# Altium schematic symbol library Schlib_jp.SchLib: 203 symbols (part 2 of 6)
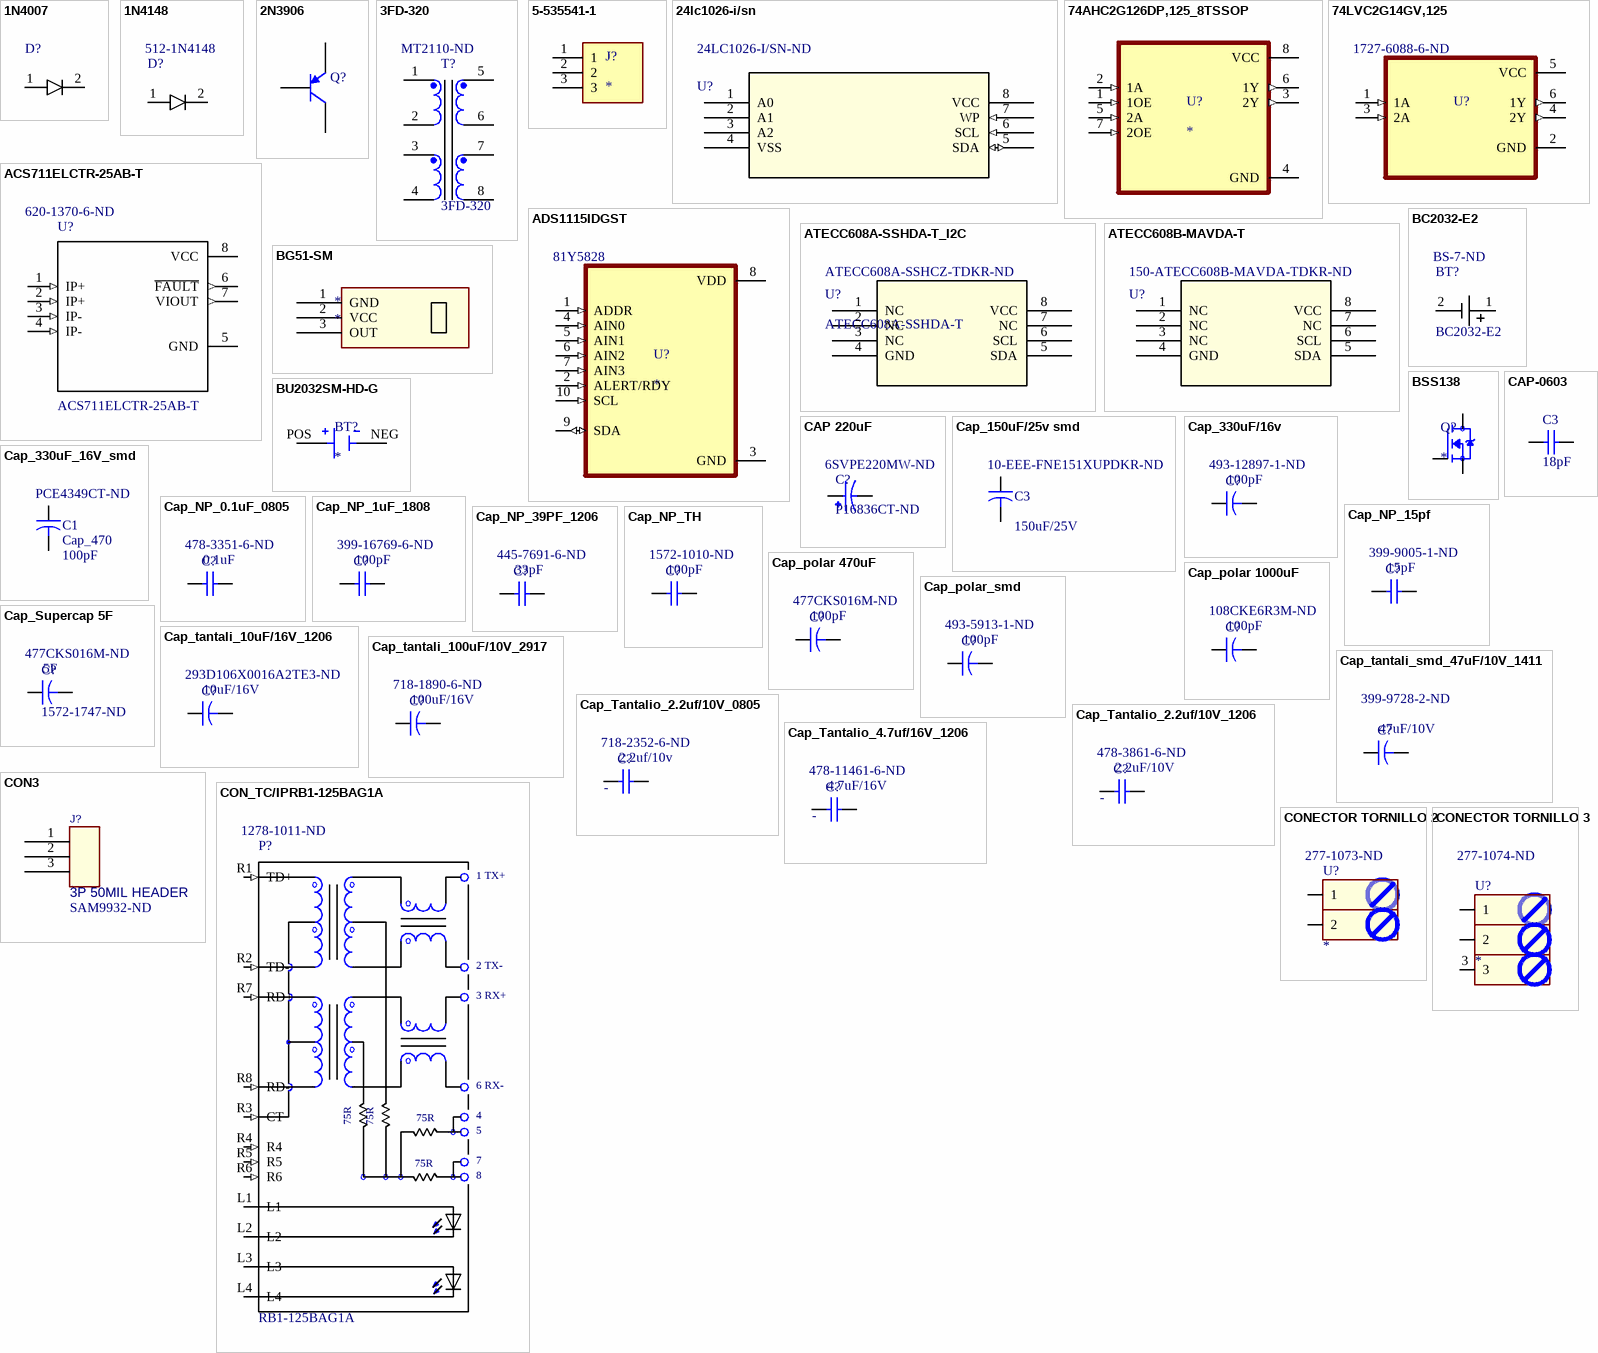
[diagram p9: symbols 1N4007 to CONECTOR TORNILLO 3]

## Cap_Tantalio_4.7uf/16V_1206
designator C?  value 4.7uF/16V  Supplier Part Number 1: 478-11461-6-ND
Capacitores de tantalio Moldeado 4.7 µF 16 V 1206 (3216 métrico); Manufacturer: Kyocera AVX; Manufacturer Part Number: 08055C104MAT2A; Digi_Key_Part_Number: 478-11461-1-ND; Dielectric Material: Ceramic; Capacitance: 100nF; Voltage Rating: 50V; Tolerance: 20%; Dielectric: X7R; Dissipation Factor: 2.5%; Insulation Resistance: 100GR; ESR (Equivalent Series Resistance): 3R; Life (Hours): 2000Hour; Published: 8-Jun-2000; LatestRevisionDate: 17-Jul-2002; LatestRevisionNote: Re-released for DXP Platform.; PackageReference: RAD-0.3; Publisher: Altium Limited; PackageDescription: Radial Cap, Thru-Hole; 2 Leads; 0.3 in Pin Spacing; Mount: Surface Mount,PCB; Case/Package: 0805; Number of Pins: 2; Case Code (Metric): 2012; Case Code (Imperial): 0805; Contact Plating: Tin,Matte; Min Operating Temperature: -55°C; Max Operating Temperature: 125°C; Package Quantity: 1; Packaging: Tape and Reel; Voltage Rating (DC): 50V; Termination: SMD/SMT; Voltage: 50V; Length: 2.01mm; Height: 0.94mm; Width: 0.049inch; Thickness: 0.037inch; Depth: 1.25mm; Radiation Hardening: No; REACH SVHC: No SVHC; Lead Free: Lead Free; Features: General Purpose; Supplier 1: Digi-Key; Link: https://www.digikey.com/es/products/detail/TAJA475K016UNJ/478-11461-6-ND/8019359?utm_campaign=buynow&utm_medium=aggregator&curr=usd&utm_source=octopart; ComponentLink1Description: CAP TANT 4.7UF 10% 16V 1206; ComponentLink1URL: https://www.digikey.com/es/products/detail/TAJA475K016UNJ/478-11461-6-ND/8019359?utm_campaign=buynow&utm_medium=aggregator&curr=usd&utm_source=octopart
footprint CAP_tantalio_1206
pins: 1 -, 2

## CON3
designator J?, comment 3P 50MIL HEADER  Supplier Part Number 1: SAM9932-ND
COMPSIDE: TOP; COMPLOC: [730.000,710.000]; COMPROT: 0; COMPFIXED: NO; COMPHEIGHT: 0.000; COMPGROUP: 0; COMPLOCKED: NO; COMPKEY: NO; DECOUPLER: NO; MEMORY: NO; Supplier 1: Digi-Key
footprint 3P 50 MIL HEADER_RDS
pins: 1, 2, 3

## CON_TC/IPRB1-125BAG1A
designator P?, comment RB1-125BAG1A  Supplier Part Number 1: 1278-1011-ND
Accessory RJ-45 With Transformer Connector - UDE; MF: WIZnet; Shielding: Shielded; Connector Type: RJ45; Number of Ports: 1; Direction: Down; Number of Positions: 8; Insulation Resistance: 500MR; Number of Cores per Jack: 4; Availability: Unavailable; Price: None; Package: HVQFN-36 NXP Semiconductors; SnapEDA_Link: https://www.snapeda.com/parts/RB1-125BAG1A/WIZnet/view-part/?ref=snap; MP: RB1-125BAG1A; Value: *; Supplier 1: Digi-Key; Manufacturer: WIZnet; Manufacturer Part Number: RB1-125BAG1A; Stock 1: 11611; Pricing 1: 1=2.55, 10=2.448, 25=2.244, 50=2.142, 100=2.04, 250=1.785, 500=1.734, 1000=1.56 (USD); Mount: Through Hole; Case/Package: 100; Color: Green,Yellow,Black; Contact Material: Bronze; Contact Plating: Gold; Housing Material: Thermoplastic; Min Operating Temperature: 0°C; Max Operating Temperature: 70°C; Number of Rows: 1; Packaging: Bulk; Package Quantity: 420; Termination: Solder; Lead Free: Lead Free; ComponentLink1URL: http://www1.futureelectronics.com/doc/WIZNET%20INC/RB1-125BAG1A.pdf?src-supplier=Future+Electronics; ComponentLink1Description: http://www1.futureelectronics.com/doc/WIZNET%20INC/RB1-125BAG1A.pdf?src-supplier=Future+Electronics; ComponentLink2URL: http://www.jameco.com/Jameco/Products/ProdDS/2132875.pdf?src-supplier=Jameco; ComponentLink2Description: http://www.jameco.com/Jameco/Products/ProdDS/2132875.pdf?src-supplier=Jameco; ComponentLink3URL: https://www.shopwiznet.com/lanotattachments/download/file/id/95/store/1/?src-supplier=Digi-Key; ComponentLink3Description: https://www.shopwiznet.com/lanotattachments/download/file/id/95/store/1/?src-supplier=Digi-Key; ComponentLink4URL: http://www.mouser.com/ds/2/443/RB1-125BAG1A(111-00)-224696.pdf?src-supplier=Mouser; ComponentLink4Description: http://www.mouser.com/ds/2/443/RB1-125BAG1A(111-00)-224696.pdf?src-supplier=Mouser
footprint J1B1211CCD
pins: L1, L2, L3, L4, R1 TD+ (in), R2 TD- (in), R3 CT (in), R4 (in), R5 (in), R6 (in), R7 RD+ (in), R8 RD- (in)
text: 1 TX+; 2 TX-; 3 RX+; 6 RX-; 75R; 5; 7

## CONECTOR TORNILLO 2
designator U?  Supplier Part Number 1: 277-1073-ND
Manufacturer: Phoenix Contact; Manufacturer Part Number: 1753437; Current Rating: 12A; Voltage Rating: 250V; Number of Positions: 2; Number of Levels: 1; Voltage: 300V; Voltage Rating (DC): 400V; Pitch: 5mm; Approvals: UL,CSA; Supplier 1: Digi-Key; Stock 1: 7580; Pricing 1: 1=0.72, 10=0.688, 50=0.6584, 100=0.6404, 250=0.59852, 500=0.55062, 1000=0.50873, 2500=0.48479, 5000=0.45486 (USD); Mount: Through Hole; Weight: 0.037778oz; Color: Grey,Green; Contact Plating: Tin; Contact Material: Copper,Tin; Housing Color: Green; Housing Material: Polybutylene; Number of Rows: 1; Package Quantity: 50; Packaging: Bulk; Termination: Solder; Number of Positions Per Level: 2; Current: 12A; Max Current Rating: 12A; Number of Contacts: 2; Orientation: Straight; Number of Poles: 2; Length: 10mm; Height: 10mm; Width: 15.9mm; Depth: 8.6mm; Lead Free: Lead Free; Flammability Rating: UL94 V-0; ComponentLink1URL: https://www.verical.com/server-webapp/html/getDatasheet?partID=294641&src-supplier=Verical; ComponentLink1Description: https://www.verical.com/server-webapp/html/getDatasheet?partID=294641&src-supplier=Verical; ComponentLink2URL: https://media.digikey.com/pdf/Data%20Sheets/Phoenix%20Contact%20PDFs/1753437.pdf?src-supplier=Digi-Key; ComponentLink2Description: https://media.digikey.com/pdf/Data%20Sheets/Phoenix%20Contact%20PDFs/1753437.pdf?src-supplier=Digi-Key; ComponentLink3URL: https://produktinfo.conrad.com/datenblaetter/725000-749999/743815-da-01-en-GRUNDGEHAEUSE__MSTBV_2_5__2_G.pdf?src-supplier=Conrad; ComponentLink3Description: https://produktinfo.conrad.com/datenblaetter/725000-749999/743815-da-01-en-GRUNDGEHAEUSE__MSTBV_2_5__2_G.pdf?src-supplier=Conrad
footprint 277-1140 (TERM BLOCK 2POS)
pins: 1, 2

## CONECTOR TORNILLO 3
designator U?  Supplier Part Number 1: 277-1074-ND
Manufacturer: Phoenix Contact; Manufacturer Part Number: 1753437; Current Rating: 12A; Voltage Rating: 250V; Number of Positions: 2; Number of Levels: 1; Voltage: 300V; Voltage Rating (DC): 400V; Pitch: 5mm; Approvals: UL,CSA; Mount: Through Hole; Weight: 0.037778oz; Color: Grey,Green; Contact Plating: Tin; Contact Material: Copper,Tin; Housing Color: Green; Housing Material: Polybutylene; Number of Rows: 1; Package Quantity: 50; Packaging: Bulk; Termination: Solder; Number of Positions Per Level: 2; Current: 12A; Max Current Rating: 12A; Number of Contacts: 2; Orientation: Straight; Number of Poles: 2; Length: 10mm; Height: 10mm; Width: 15.9mm; Depth: 8.6mm; Lead Free: Lead Free; Flammability Rating: UL94 V-0; ComponentLink1URL: https://www.verical.com/server-webapp/html/getDatasheet?partID=294641&src-supplier=Verical; ComponentLink1Description: https://www.verical.com/server-webapp/html/getDatasheet?partID=294641&src-supplier=Verical; ComponentLink2URL: https://media.digikey.com/pdf/Data%20Sheets/Phoenix%20Contact%20PDFs/1753437.pdf?src-supplier=Digi-Key; ComponentLink2Description: https://media.digikey.com/pdf/Data%20Sheets/Phoenix%20Contact%20PDFs/1753437.pdf?src-supplier=Digi-Key; ComponentLink3URL: https://produktinfo.conrad.com/datenblaetter/725000-749999/743815-da-01-en-GRUNDGEHAEUSE__MSTBV_2_5__2_G.pdf?src-supplier=Conrad; ComponentLink3Description: https://produktinfo.conrad.com/datenblaetter/725000-749999/743815-da-01-en-GRUNDGEHAEUSE__MSTBV_2_5__2_G.pdf?src-supplier=Conrad; Supplier 1: Digi-Key; Stock 1: 2384; Pricing 1: 1=1.06, 10=1.014, 50=0.9702, 100=0.9437, 250=0.882, 500=0.81144, 1000=0.7497, 2500=0.71442, 5000=0.67032 (USD); ComponentLink4URL: https://media.digikey.com/pdf/Data%20Sheets/Phoenix%20Contact%20PDFs/1753453.pdf?src-supplier=Digi-Key; ComponentLink4Description: https://media.digikey.com/pdf/Data%20Sheets/Phoenix%20Contact%20PDFs/1753453.pdf?src-supplier=Digi-Key; ComponentLink5URL: https://www.alliedelec.com/m/d/04bf1952d21caef77442e0e02da47893.pdf?src-supplier=Allied+Electronics; ComponentLink5Description: https://www.alliedelec.com/m/d/04bf1952d21caef77442e0e02da47893.pdf?src-supplier=Allied+Electronics; ComponentLink6URL: https://produktinfo.conrad.com/datenblaetter/725000-749999/743827-da-01-en-GRUNDGEHAEUSE__MSTBV_2_5__3_G.pdf?src-supplier=Conrad; ComponentLink6Description: https://produktinfo.conrad.com/datenblaetter/725000-749999/743827-da-01-en-GRUNDGEHAEUSE__MSTBV_2_5__3_G.pdf?src-supplier=Conrad
footprint 277-1141 (TERM BLOCK HDR 3POS)
pins: 1, 2, 3

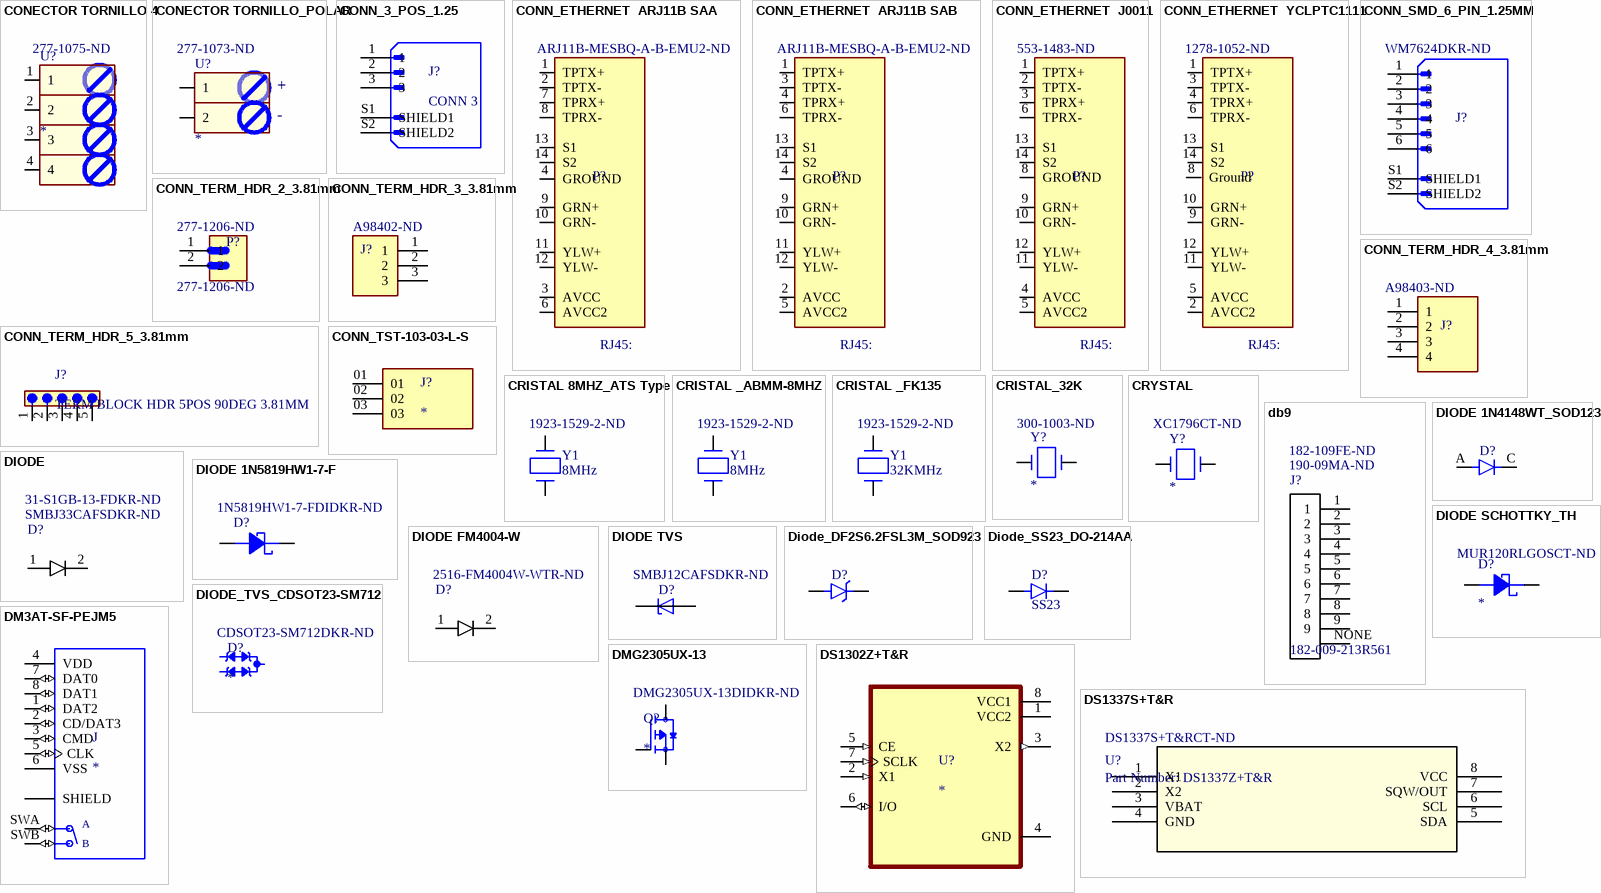
[diagram p1: symbols CONECTOR TORNILLO 4 to DS1337S+T&R]

## CONECTOR TORNILLO 4
designator U?  Supplier Part Number 1: 277-1075-ND
Manufacturer: Phoenix Contact; Manufacturer Part Number: 1753437; Current Rating: 12A; Voltage Rating: 250V; Number of Positions: 2; Number of Levels: 1; Voltage: 300V; Voltage Rating (DC): 400V; Pitch: 5mm; Approvals: UL,CSA; Mount: Through Hole; Weight: 0.037778oz; Color: Grey,Green; Contact Plating: Tin; Contact Material: Copper,Tin; Housing Color: Green; Housing Material: Polybutylene; Number of Rows: 1; Package Quantity: 50; Packaging: Bulk; Termination: Solder; Number of Positions Per Level: 2; Current: 12A; Max Current Rating: 12A; Number of Contacts: 2; Orientation: Straight; Number of Poles: 2; Length: 10mm; Height: 10mm; Width: 15.9mm; Depth: 8.6mm; Lead Free: Lead Free; Flammability Rating: UL94 V-0; ComponentLink1URL: https://www.verical.com/server-webapp/html/getDatasheet?partID=294641&src-supplier=Verical; ComponentLink1Description: https://www.verical.com/server-webapp/html/getDatasheet?partID=294641&src-supplier=Verical; ComponentLink2URL: https://media.digikey.com/pdf/Data%20Sheets/Phoenix%20Contact%20PDFs/1753437.pdf?src-supplier=Digi-Key; ComponentLink2Description: https://media.digikey.com/pdf/Data%20Sheets/Phoenix%20Contact%20PDFs/1753437.pdf?src-supplier=Digi-Key; ComponentLink3URL: https://produktinfo.conrad.com/datenblaetter/725000-749999/743815-da-01-en-GRUNDGEHAEUSE__MSTBV_2_5__2_G.pdf?src-supplier=Conrad; ComponentLink3Description: https://produktinfo.conrad.com/datenblaetter/725000-749999/743815-da-01-en-GRUNDGEHAEUSE__MSTBV_2_5__2_G.pdf?src-supplier=Conrad; ComponentLink4URL: https://www.verical.com/server-webapp/html/getDatasheet?partID=247903&src-supplier=Verical; ComponentLink4Description: https://www.verical.com/server-webapp/html/getDatasheet?partID=247903&src-supplier=Verical; ComponentLink5URL: https://media.digikey.com/pdf/Data%20Sheets/Phoenix%20Contact%20PDFs/1754478.pdf?src-supplier=Digi-Key; ComponentLink5Description: https://media.digikey.com/pdf/Data%20Sheets/Phoenix%20Contact%20PDFs/1754478.pdf?src-supplier=Digi-Key; ComponentLink6URL: https://produktinfo.conrad.com/datenblaetter/725000-749999/743854-da-01-en-GRUNDGEHAEUSE__MSTB_2_5__4_G.pdf?src-supplier=Conrad; ComponentLink6Description: https://produktinfo.conrad.com/datenblaetter/725000-749999/743854-da-01-en-GRUNDGEHAEUSE__MSTB_2_5__4_G.pdf?src-supplier=Conrad; Supplier 1: Digi-Key; Stock 1: 3061; Pricing 1: 1=1.45, 10=1.389, 50=1.3282, 100=1.292, 250=1.20752, 500=1.1109, 1000=1.02637, 2500=0.97807, 5000=0.9177 (USD); ComponentLink7URL: https://media.digikey.com/pdf/Data%20Sheets/Phoenix%20Contact%20PDFs/1753479.pdf?src-supplier=Digi-Key; ComponentLink7Description: https://media.digikey.com/pdf/Data%20Sheets/Phoenix%20Contact%20PDFs/1753479.pdf?src-supplier=Digi-Key; ComponentLink8URL: https://www.verical.com/server-webapp/html/getDatasheet?partID=717945&src-supplier=Verical; ComponentLink8Description: https://www.verical.com/server-webapp/html/getDatasheet?partID=717945&src-supplier=Verical; ComponentLink9URL: https://produktinfo.conrad.com/datenblaetter/725000-749999/743463-da-01-en-GRUNDGEHAEUSE___MSTBV_2_5__4_G.pdf?src-supplier=Conrad; ComponentLink9Description: https://produktinfo.conrad.com/datenblaetter/725000-749999/743463-da-01-en-GRUNDGEHAEUSE___MSTBV_2_5__4_G.pdf?src-supplier=Conrad
footprint 277-1075 (TERM BLOCK HDR 3POS)
pins: 1, 2, 3, 4

## CONECTOR TORNILLO_POLAR
designator U?  Supplier Part Number 1: 277-1073-ND
Manufacturer: Phoenix Contact; Manufacturer Part Number: 1753437; Current Rating: 12A; Voltage Rating: 250V; Number of Positions: 2; Number of Levels: 1; Voltage: 300V; Voltage Rating (DC): 400V; Pitch: 5mm; Approvals: UL,CSA; Supplier 1: Digi-Key; Stock 1: 7580; Pricing 1: 1=0.72, 10=0.688, 50=0.6584, 100=0.6404, 250=0.59852, 500=0.55062, 1000=0.50873, 2500=0.48479, 5000=0.45486 (USD); Mount: Through Hole; Weight: 0.037778oz; Color: Grey,Green; Contact Plating: Tin; Contact Material: Copper,Tin; Housing Color: Green; Housing Material: Polybutylene; Number of Rows: 1; Package Quantity: 50; Packaging: Bulk; Termination: Solder; Number of Positions Per Level: 2; Current: 12A; Max Current Rating: 12A; Number of Contacts: 2; Orientation: Straight; Number of Poles: 2; Length: 10mm; Height: 10mm; Width: 15.9mm; Depth: 8.6mm; Lead Free: Lead Free; Flammability Rating: UL94 V-0; ComponentLink1URL: https://www.verical.com/server-webapp/html/getDatasheet?partID=294641&src-supplier=Verical; ComponentLink1Description: https://www.verical.com/server-webapp/html/getDatasheet?partID=294641&src-supplier=Verical; ComponentLink2URL: https://media.digikey.com/pdf/Data%20Sheets/Phoenix%20Contact%20PDFs/1753437.pdf?src-supplier=Digi-Key; ComponentLink2Description: https://media.digikey.com/pdf/Data%20Sheets/Phoenix%20Contact%20PDFs/1753437.pdf?src-supplier=Digi-Key; ComponentLink3URL: https://produktinfo.conrad.com/datenblaetter/725000-749999/743815-da-01-en-GRUNDGEHAEUSE__MSTBV_2_5__2_G.pdf?src-supplier=Conrad; ComponentLink3Description: https://produktinfo.conrad.com/datenblaetter/725000-749999/743815-da-01-en-GRUNDGEHAEUSE__MSTBV_2_5__2_G.pdf?src-supplier=Conrad
footprint 277-1140 (TERM BLOCK 2POS)
pins: 1, 2
text: +; -

## CONN_3_POS_1.25
designator J?, comment CONN 3
Conn Shrouded Header (4 Sides) HDR 3 POS 1.25mm Solder RA Side Entry SMD PicoBladeâ„¢ T/R; MF: Molex; MP: 532610371; Check_prices: https://www.snapeda.com/parts/532610371/Molex/view-part/?ref=eda; Value: *; Price: None; Package: None; Availability: In Stock; Purchase-URL: https://pricing.snapeda.com/search/part/532610371/?ref=eda; SnapEDA_Link: https://www.snapeda.com/parts/532610371/Molex/view-part/?ref=snap; ComponentLink1Description: CONN HEADER SMD R/A 3POS 1.25MM; ComponentLink1URL: https://www.digikey.com/es/products/detail/amphenol-cs-fci/10114830-10103LF/4238857; Link: https://www.digikey.com/es/products/detail/amphenol-cs-fci/10114830-10103LF/4238857; Digi-Key_Part_Number: 609-5778-1-ND
footprint MOLEX_532610371
pins: 1, 2, 3, S1 SHIELD1, S2 SHIELD2

## CONN_ETHERNET  ARJ11B SAA
designator P?, comment Supplier Part Number 1: ARJ11B-MESBQ-A-B-EMU2-ND  (hidden comment: 1278-1052-ND)
1 Puerto RJ45Orificio pasante 10/100 Base-T, AutoMDIX; MF: Ceetus; MP: J1B1211CCD; DigiKey-Purchase-URL: https://snapeda.com/shop?store=DigiKey&id=561300; Value: *; Package: None; Availability: Warning; SnapEDA_Link: https://www.snapeda.com/parts/J1B1211CCD/Cetus/view-part/561300/?ref=snap; Mouser-Purchase-URL: https://snapeda.com/shop?store=Mouser&id=561300; Price: None; Supplier 1: Digi-Key; Digi_Key_Part_Number: 1278-1052-ND; Link: https://www.digikey.com/es/products/detail/wiznet/J1B1211CCD/7604176?s=N4IgTCBcDaIIxgOwA4C0cAMBWMqByAIiALoC%2BQA
footprint J1B1211CCD
pins: 1 TPTX+, 2 TPTX-, 3 AVCC, 4 GROUND, 6 AVCC2, 7 TPRX+, 8 TPRX-, 9 GRN+, 10 GRN-, 11 YLW+, 12 YLW-, 13 S1, 14 S2

## CONN_ETHERNET  ARJ11B SAB
designator P?, comment Supplier Part Number 1: ARJ11B-MESBQ-A-B-EMU2-ND  (hidden comment: 1278-1052-ND)
1 Puerto RJ45Orificio pasante 10/100 Base-T, AutoMDIX; MF: Ceetus; MP: J1B1211CCD; DigiKey-Purchase-URL: https://snapeda.com/shop?store=DigiKey&id=561300; Value: *; Package: None; Availability: Warning; SnapEDA_Link: https://www.snapeda.com/parts/J1B1211CCD/Cetus/view-part/561300/?ref=snap; Mouser-Purchase-URL: https://snapeda.com/shop?store=Mouser&id=561300; Price: None; Supplier 1: Digi-Key
footprint J1B1211CCD
pins: 1 TPTX+, 2 AVCC, 3 TPTX-, 4 TPRX+, 4 GROUND, 5 AVCC2, 6 TPRX-, 9 GRN+, 10 GRN-, 11 YLW+, 12 YLW-, 13 S1, 14 S2

## CONN_ETHERNET  J0011
designator P?, comment Supplier Part Number 1: 553-1483-ND  (hidden comment: 1278-1052-ND)
1 Puerto RJ45Orificio pasante 10/100 Base-T, AutoMDIX; MF: Ceetus; MP: J1B1211CCD; Value: *; Package: None; Availability: Warning; SnapEDA_Link: https://www.snapeda.com/parts/J1B1211CCD/Cetus/view-part/561300/?ref=snap; Mouser-Purchase-URL: https://snapeda.com/shop?store=Mouser&id=561300; Price: None; Supplier 1: Digi-Key; Digi-Key_Part_Number: 553-1483-ND; Link: https://www.digikey.com/es/products/detail/pulse-electronics/j0011d01bnl/1036891; ComponentLink1Description: CONN JACK 1PORT 100 BASE-TX PCB J0011D01BNL; ComponentLink1URL: https://www.digikey.com/es/products/detail/pulse-electronics/j0011d01bnl/1036891
footprint J1B1211CCD
pins: 1 TPTX+, 2 TPTX-, 3 TPRX+, 4 AVCC, 5 AVCC2, 6 TPRX-, 8 GROUND, 9 GRN+, 10 GRN-, 11 YLW-, 12 YLW+, 13 S1, 14 S2

## CONN_ETHERNET  YCLPTC1111
designator P?, comment 1278-1052-ND
1 Puerto RJ45Orificio pasante 10/100 Base-T, AutoMDIX; MF: Ceetus; MP: J1B1211CCD; DigiKey-Purchase-URL: https://snapeda.com/shop?store=DigiKey&id=561300; Value: *; Package: None; Availability: Warning; SnapEDA_Link: https://www.snapeda.com/parts/J1B1211CCD/Cetus/view-part/561300/?ref=snap; Mouser-Purchase-URL: https://snapeda.com/shop?store=Mouser&id=561300; Price: None; Supplier 1: Digi-Key; Supplier Part Number 1: 1278-1052-ND
footprint J1B1211CCD
pins: 1 TPTX+, 2 AVCC2, 3 TPTX-, 4 TPRX+, 5 AVCC, 6 TPRX-, 8 Ground, 9 GRN-, 10 GRN+, 11 YLW-, 12 YLW+, 13 S1, 14 S2

## CONN_SMD_6_PIN_1.25MM
designator J?, comment Supplier Part Number 1: WM7624DKR-ND  (hidden comment: 532610671)
Connector Header Surface Mount, Right Angle 6 position 0.049 (1.25mm); MF: Molex; Check_prices: https://www.snapeda.com/parts/532610671/Molex/view-part/?ref=eda; Value: *; Purchase-URL: https://pricing.snapeda.com/search/part/532610671/?ref=eda; Digi-Key_Part_Number: WM7624TR-ND; SnapEDA_Link: https://www.snapeda.com/parts/532610671/Molex/view-part/?ref=snap; Package: None; MP: 532610671; Supplier 1: Digi-Key; ComponentLink1Description: CONN HEADER SMD R/A 6POS 1.25MM; ComponentLink1URL: https://www.digikey.com/es/products/detail/0532610671/WM7624DKR-ND/1846792?utm_campaign=buynow&utm_medium=aggregator&curr=usd&utm_source=octopart; Link: https://www.digikey.com/es/products/detail/0532610671/WM7624DKR-ND/1846792?utm_campaign=buynow&utm_medium=aggregator&curr=usd&utm_source=octopart
footprint MOLEX_532610671
pins: 1, 2, 3, 4, 5, 6, S1 SHIELD1, S2 SHIELD2

## CONN_TERM_HDR_2_3.81mm
designator P?, comment 277-1206-ND
2 Position Terminal Block Header, Male Pins, Shrouded (4 Side) 0.150" (3.81mm) 90°, Right Angle Through Hole; MP: 1803277; MF: Phoenix Contact; Package: FakePackage N; Value: *; SnapEDA_Link: https://www.snapeda.com/parts/1803277/Phoenix%20Contact/view-part/115436/?ref=snap; Supplier 1: Digi-Key; Link: https://www.digikey.com/en/products/detail/phoenix-contact/1803277/260574; ComponentLink1Description: TERM BLOCK HDR 2POS 90DEG 3.81MM; ComponentLink1URL: https://www.digikey.com/es/products/detail/phoenix-contact/1803277/260574?s=N4IgTCBcDa4OxwLQEYwAYBsiByAREAugL5A; Digi_Key_Part_Number: 277-1206-ND; Supplier Part Number 1: 277-1206-ND
footprint PHOENIX_1803277
pins: 1, 2

## CONN_TERM_HDR_3_3.81mm
designator J?, comment Supplier Part Number 1: A98402-ND  (hidden comment: 284513-3)
3 Bloque de terminales de posición Cabecera, clavija macho, protegida (4 lados) 0.150" (3.81mm) 90°, ángulo recto Orificio pasante; MF: TE Connectivity; MP: 284513-3; Package: None; Value: *; TE_purchase_URL: https://www.te.com/usa-en/product-284513-3.html?te_bu=Cor&te_type=disp&te_campaign=seda_glo_cor-seda-global-disp-prtnr-fy19-seda-model-bom-cta_sma-317_1&elqCampaignId=32493; Availability: Unavailable; Price: None; SnapEDA_Link: https://www.snapeda.com/parts/284513-3/TE%20Connectivity%20AMP%20Connectors/view-part/284470/?ref=snap; EU_RoHS_Compliance: Compliant; Supplier 1: Digi-Key; Digi_Key_Part_Number: A98402-ND; Link: https://www.digikey.com/en/products/detail/te-connectivity-amp-connectors/284513-3/1153286; ComponentLink1Description: TERM BLOCK HDR 3POS 90DEG 3.81MM; ComponentLink1URL: https://www.digikey.com/es/products/detail/te-connectivity-amp-connectors/284513-3/1153286?s=N4IgTCBcDaIIIE4AcAWADGAtAOQCIgF0BfIA
footprint TE_284513-3
pins: 1, 2, 3

## CONN_TERM_HDR_4_3.81mm
designator J?, comment Supplier Part Number 1: A98403-ND  (hidden comment: 284513-4)
4 Bloque de terminales de posición Cabecera, clavija macho, protegida (4 lados) 0.150" (3.81mm) 90°, ángulo recto Orificio pasante; Centerline_Pitch: 3.81 mm[.1499 in]; Number_of_Positions: 4; MF: TE Connectivity; SnapEDA_Link: https://www.snapeda.com/parts/284513-4/TE%20Connectivity%20AMP%20Connectors/view-part/417758/?ref=snap; EU_RoHS_Compliance: Compliant; Availability: Unavailable; TE_purchase_URL: https://www.te.com/usa-en/product-284513-4.html?te_bu=Cor&te_type=disp&te_campaign=seda_glo_cor-seda-global-disp-prtnr-fy19-seda-model-bom-cta_sma-317_1&elqCampaignId=32493; Value: *; Package: None; MP: 284513-4; Price: None; Supplier 1: Digi-Key; Link: https://www.digikey.com/en/products/detail/te-connectivity-amp-connectors/284513-4/1136751; Digi_Key_Part_Number: A98403-ND; ComponentLink1Description: TERM BLOCK HDR 4POS 90DEG 3.81MM; ComponentLink1URL: https://www.digikey.com/es/products/detail/te-connectivity-amp-connectors/284513-4/1136751?s=N4IgTCBcDaIIIE4AcAWADAZgLQDkAiIAugL5A; ComponentLink2Description: TERM BLOCK HDR 4POS 90DEG 3.81MM; ComponentLink2URL: https://www.digikey.com/es/products/detail/te-connectivity-amp-connectors/284513-4/1136751
footprint TE_284513-4
pins: 1, 2, 3, 4

## CONN_TERM_HDR_5_3.81mm
designator J?, comment TERM BLOCK HDR 5POS 90DEG 3.81MM
5 Bloque de terminales de posición Cabecera, clavija macho, protegida (4 lados) 0.150" (3.81mm) 90°, ángulo recto Orificio pasante; MF: Molex; MP: 0395126005; Package: None; Price: None; Value: TERM BLOCK HDR 5POS 90DEG 3.81MM; Availability: In Stock; ComponentLink1Description: TERM BLOCK HDR 5POS 90DEG 3.81MM; ComponentLink1URL: https://www.digikey.com/es/products/detail/molex/0395126005/2736025; Link: https://www.digikey.com/es/products/detail/molex/0395126005/2736025; Digi-Key_Part_Number: WM25777-ND
pins: 1, 2, 3, 4, 5

## CONN_TST-103-03-L-S
designator J?
Cabezal de conector Orificio pasante 3 posiciones 0.100" (2.54mm); MP: TST-103-03-L-S; Package: None; Price: None; Value: *; Availability: Unavailable; ComponentLink1Description: CONN HEADER VERT 3POS 2.54MM; ComponentLink1URL: https://www.digikey.com/es/products/detail/samtec-inc/TST-103-03-L-S/9497032?s=N4IgTCBcDaICoGU4FoCMAGAzMryAyyCIAugL5A; Link: https://www.digikey.com/es/products/detail/samtec-inc/TST-103-03-L-S/9497032?s=N4IgTCBcDaICoGU4FoCMAGAzMryAyyCIAugL5A; Digi-Key_Part_Number: TST-103-03-L-S-ND
footprint SAMTEC_TST-103-03-L-S
pins: 01, 02, 03

## CRISTAL 8MHZ_ATS Type
designator Y1, comment 8MHz  Supplier Part Number 1: 1923-1529-2-ND
ATS Type Crystal; ComponentLink1Description: LFXTAL036274REEL; ComponentLink1URL: https://www.digikey.com/es/products/detail/iqd-frequency-products/LFXTAL036274REEL/8633816; Supplier 1: Digi-Key
footprint OSC-ATS Type (ATS Type Crystal)
pins: 1, 2

## CRISTAL _ABMM-8MHZ
designator Y1, comment 8MHz  Supplier Part Number 1: 1923-1529-2-ND
8 MHz ±20ppm Cristales 18pF 4-SMD, sin conductor; ComponentLink1Description: LFXTAL036274REEL; ComponentLink1URL: https://www.digikey.com/es/products/detail/iqd-frequency-products/LFXTAL036274REEL/8633816; Supplier 1: Digi-Key
footprint OSC_ABMM-8.000MHZ-B2-T
pins: 1, 2

## CRISTAL _FK135
designator Y1, comment 32KMHz  Supplier Part Number 1: 1923-1529-2-ND
CRYSTAL 32.7680KHZ 12.5PF SMD; ComponentLink1Description: LFXTAL036274REEL; ComponentLink1URL: https://www.digikey.com/es/products/detail/iqd-frequency-products/LFXTAL036274REEL/8633816; Supplier 1: Digi-Key
footprint CRYSTAL_0805
pins: 1, 2

## CRISTAL_32K
designator Y?  Supplier Part Number 2: 300-1003-ND
Manufacturer: ECS International; Manufacturer Part Number: ECS-200-20-3X-EN-TR; Frequency: 20MHz; Frequency Tolerance: 30ppm; Load Capacitance: 20pF; ESR (Equivalent Series Resistance): 50R; Frequency Stability: 50ppm; Supplier 1: Digi-Key; Stock 1: 16745; Pricing 1: 1=0.53, 10=0.44, 50=0.396, 100=0.352, 500=0.3344, 1000=0.2816 (USD); Mount: Surface Mount; Min Operating Temperature: -40°C; Max Operating Temperature: 85°C; Package Quantity: 1; Packaging: Tape and Reel; Tolerance: 30ppm; Termination: SMD/SMT; Length: 0.276inch; Height: 0.091inch; Width: 0.161inch; Lead Free: Lead Free; Supplier 2: Digi-Key; Stock 2: 1865; Pricing 2: 1=1.04, 10=0.92, 50=0.86, 100=0.76, 500=0.72, 1000=0.6, 2500=0.58, 5000=0.56, 10000=0.54 (USD); Case/Package: Radial
footprint OSC-CH206-RA
pins: 1, 2

## CRYSTAL
designator Y?  Supplier Part Number 1: XC1796CT-ND
Manufacturer: ECS International; Manufacturer Part Number: ECS-200-20-3X-EN-TR; Frequency: 20MHz; Frequency Tolerance: 30ppm; Load Capacitance: 20pF; ESR (Equivalent Series Resistance): 50R; Frequency Stability: 50ppm; Supplier 1: Digi-Key; Stock 1: 16745; Pricing 1: 1=0.53, 10=0.44, 50=0.396, 100=0.352, 500=0.3344, 1000=0.2816 (USD); Mount: Surface Mount; Min Operating Temperature: -40°C; Max Operating Temperature: 85°C; Package Quantity: 1; Packaging: Tape and Reel; Tolerance: 30ppm; Termination: SMD/SMT; Length: 0.276inch; Height: 0.091inch; Width: 0.161inch; Lead Free: Lead Free; ComponentLink1URL: http://www.ecsxtal.com/store/pdf/CSM-3X.pdf?src-supplier=Digi-Key; ComponentLink1Description: http://www.ecsxtal.com/store/pdf/CSM-3X.pdf?src-supplier=Digi-Key; ComponentLink2Description: ABLS7M2-25.000MHZ-D2Y-T; ComponentLink2URL: https://www.digikey.com/es/products/detail/abracon-llc/ABLS7M2-25-000MHZ-D2Y-T/5135064
footprint XTAL
pins: 1, 2

## db9
designator J?, comment 182-009-213R561  Supplier Part Number 1: 190-09MA-ND  Supplier Part Number 2: 182-109FE-ND
182 Series 9 Position Right Angle Socket Board Mount D-Sub Connector; Manufacturer: NorComp; Manufacturer Part Number: 190-009-163R001; MF: NorComp Inc.; Body Material: Steel; Voltage Rating: 300V; Current Rating: 5A; Gender: Male; Connector Type: D-Sub,Plug,Signal; Number of Positions: 9; Package: None; Availability: Unavailable; SnapEDA_Link: https://www.snapeda.com/parts/182-009-213R561/NorComp%20Inc./view-part/?ref=snap; MP: 182-009-213R561; Price: None; Value: *; Supplier 1: Digi-Key; Stock 1: 10789; Pricing 1: 1=2.85, 10=2.736, 25=2.508, 50=2.394, 100=2.28, 250=1.995, 500=1.938, 1000=1.653, 2500=1.539 (USD); Mount: Surface Mount,Edge; Contact Plating: Gold; Color: Black; Housing Color: Black; Contact Material: Bronze; Housing Material: Nylon; Min Operating Temperature: -55°C; Max Operating Temperature: 105°C; Package Quantity: 15; Packaging: Rail/Tube; Termination: SMD/SMT; Features: Shielded; Number of Rows: 2; Number of Contacts: 9; Length: 30mm; Height: 12.5mm; Width: 3.91mm; Lead Free: Lead Free; REACH SVHC: No SVHC; Flammability Rating: UL94 V-0; ComponentLink1URL: http://www.mouser.com/ds/2/296/190-009-163R001-221099.pdf?src-supplier=Mouser; ComponentLink1Description: http://www.mouser.com/ds/2/296/190-009-163R001-221099.pdf?src-supplier=Mouser; ComponentLink2URL: https://www.norcomp.net/rohspdfs/Connectors/19Y/190/190-009-163R001.pdf?src-supplier=Digi-Key; ComponentLink2Description: https://www.norcomp.net/rohspdfs/Connectors/19Y/190/190-009-163R001.pdf?src-supplier=Digi-Key; ComponentLink3URL: http://www.norcomp.net/rohspdfs/Connectors/19Y/190/190-009-163R001.pdf?src-supplier=Future+Electronics; ComponentLink3Description: http://www.norcomp.net/rohspdfs/Connectors/19Y/190/190-009-163R001.pdf?src-supplier=Future+Electronics; Supplier 2: Digi-Key; Stock 2: 2484; Pricing 2: 1=2.27, 10=2.058, 25=1.932, 50=1.848, 100=1.764, 250=1.596, 500=1.47, 1000=1.26, 2500=1.176 (USD); Material: Metal; ComponentLink4URL: https://media.digikey.com/pdf/Data%20Sheets/Norcomp%20PDFs/182-YYY-213RYY1.pdf?src-supplier=Digi-Key; ComponentLink4Description: https://media.digikey.com/pdf/Data%20Sheets/Norcomp%20PDFs/182-YYY-213RYY1.pdf?src-supplier=Digi-Key; ComponentLink5URL: http://www.mouser.com/ds/2/296/182-yyy-213Ryy1-54286.pdf?src-supplier=Mouser; ComponentLink5Description: http://www.mouser.com/ds/2/296/182-yyy-213Ryy1-54286.pdf?src-supplier=Mouser; ComponentLink6URL: http://www.norcomp.net/rohspdfs/Connectors/18Y/182/182-yyy-213Ryy1.pdf?src-supplier=Future+Electronics; ComponentLink6Description: http://www.norcomp.net/rohspdfs/Connectors/18Y/182/182-yyy-213Ryy1.pdf?src-supplier=Future+Electronics
footprint NORCOMP_DB9_MACHO
pins: 1, 2, 3, 4, 5, 6, 7, 8, 9, NONE

## DIODE
designator D?, comment Supplier Part Number 2: 31-S1GB-13-FDKR-ND  (hidden comment: SMBJ33CAFSDKR-ND)
Diode Switching 1KV 1A 2-Pin DO-41; Manufacturer: ON Semiconductor / Fairchild; MF: ON Semiconductor; MP: 1N4007; Forward Voltage: 1.1V; Polarity: Standard; Peak Non-Repetitive Surge Current: 30A; Element Configuration: Single; Capacitance: 15pF; Peak Reverse Current: 5uA; Power Dissipation: 3W; Operating Supply Voltage: 33V; Breakdown Voltage: 36.7V; Number of Channels: 1; Clamping Voltage: 53.3V; Peak Pulse Power: 600W; Price: None; Package: DO-41 Good-Ark; Availability: Unavailable; SnapEDA_Link: https://www.snapeda.com/parts/1N4007/ON%20Semiconductor/view-part/?ref=snap; Value: *; Manufacturer Part Number: 1N4007; Mount: Through Hole; Number of Pins: 2; Weight: 0.245g; Contact Plating: Tin,Matte; Min Operating Temperature: -65°C; Max Operating Temperature: 175°C; Packaging: Tape and Reel; Voltage Rating (DC): 1kV; Current Rating: 1A; Output Current: 1A; Max Surge Current: 30A; Forward Current: 1A; Max Repetitive Reverse Voltage (Vrrm): 1kV; Max Forward Surge Current (Ifsm): 30A; Package Quantity: 1000; Reverse Voltage: 1kV; Average Rectified Current: 1A; Max Reverse Voltage (DC): 1kV; Diameter: 2.72mm; Length: 5.2mm; Height: 5.2mm; Width: 2.72mm; Radiation Hardening: No; REACH SVHC: No SVHC; Lead Free: Lead Free; ComponentLink1URL: http://www.farnell.com/datasheets/2288250.pdf?src-supplier=Newark; ComponentLink1Description: http://www.farnell.com/datasheets/2288250.pdf?src-supplier=Newark; ComponentLink2URL: http://www.onsemi.com/pub/Collateral/1N4001-D.PDF?src-supplier=Digi-Key; ComponentLink2Description: http://www.onsemi.com/pub/Collateral/1N4001-D.PDF?src-supplier=Digi-Key; ComponentLink3URL: http://www.fairchildsemi.com/datasheets/1N/1N4001.pdf?src-supplier=Digi-Key; ComponentLink3Description: http://www.fairchildsemi.com/datasheets/1N/1N4001.pdf?src-supplier=Digi-Key; Supplier 1: Digi-Key; Stock 1: 77516; Pricing 1: 1=0.4, 10=0.344, 25=0.3208, 100=0.2384, 250=0.22648, 500=0.18614, 1000=0.15129 (USD); Power Rating: 600W; Supplier 2: Digi-Key; Supplier Part Number 1: SMBJ33CAFSDKR-ND
footprint SM/_SMB DIODE
pins: 1, 2

## DIODE 1N4148WT_SOD123
designator D?, comment 3191-1N4148WTCT-ND  (value not drawn)
Diodos 75 V 250mA Montaje en superficie SOD-123; MP: FDLL4148; MF: ON Semiconductor; Value: 1N4448W; SnapEDA_Link: https://www.snapeda.com/parts/FDLL4148/ON%20Semiconductor/view-part/2783433/?ref=snap; Package: SOD-80-2 ON Semiconductor; DigiKey-Purchase-URL: https://snapeda.com/shop?store=DigiKey&id=2783433; Mouser-Purchase-URL: https://snapeda.com/shop?store=Mouser&id=2783433; Digi-Key_Part_Number: 1N4448WTPMSCT-ND; Supplier 1: Digi-Key; Link: https://www.digikey.com/es/products/detail/micro-commercial-co/1N4448W-TP/789330; Supplier Part Number 1: 3191-1N4148WTDKR-ND; ComponentLink2Description: DIODE GEN PURP 75V 250MA SOD123; ComponentLink2URL: https://www.digikey.com/es/products/detail/micro-commercial-co/1N4448W-TP/789330?s=N4IgTCBcDaIIwDkAsKAcB1AKgBQLIGUBhTAWgQBEQBdAXyA
footprint DIOMELF3414N
pins: A, C

## DIODE 1N5819HW1-7-F
designator D?, comment Supplier Part Number 1: 1N5819HW1-7-FDIDKR-ND  (hidden comment: 1N5819HW1-7-FDICT-ND)
Diode Super Barrier 40 V 1A Surface Mount SOD-123F; Manufacturer: Diodes; Manufacturer Part Number: 1N5819HW-7-F; Forward Voltage: 450mV; Max Power Dissipation: 450mW; Peak Reverse Current: 50uA; Element Configuration: Single; Max Repetitive Reverse Voltage (Vrrm): 40V; Max Forward Surge Current (Ifsm): 25A; Polarity: Standard; Capacitance: 110pF; Case/Package: SOD-123-2; Number of Pins: 2; Weight: 0.000353oz; Contact Plating: Tin,Matte; Min Operating Temperature: -65°C; Max Operating Temperature: 125°C; Package Quantity: 3000; Forward Current: 1A; Packaging: Tape and Reel; Average Rectified Current: 1A; Peak Non-Repetitive Surge Current: 25A; Termination: SMD/SMT; Voltage Rating (DC): 40V; Current Rating: 1A; Output Current: 1A; Max Reverse Voltage (DC): 40V; Length: 2.85mm; Height: 1.25mm; Width: 1.7mm; Radiation Hardening: No; REACH SVHC: No SVHC; Lead Free: Lead Free; ComponentLink1URL: http://www.diodes.com/datasheets/ds30217.pdf?src-supplier=Future+Electronics; ComponentLink1Description: http://www.diodes.com/datasheets/ds30217.pdf?src-supplier=Future+Electronics; ComponentLink2URL: https://www.diodes.com/assets/Datasheets/ds30217.pdf?src-supplier=Digi-Key; ComponentLink2Description: https://www.diodes.com/assets/Datasheets/ds30217.pdf?src-supplier=Digi-Key; ComponentLink3URL: http://www.farnell.com/datasheets/2238341.pdf?src-supplier=Element14; ComponentLink3Description: http://www.farnell.com/datasheets/2238341.pdf?src-supplier=Element14; ComponentLink4URL: http://www.jameco.com/Jameco/Products/ProdDS/1538419.pdf?src-supplier=Jameco; ComponentLink4Description: http://www.jameco.com/Jameco/Products/ProdDS/1538419.pdf?src-supplier=Jameco; ComponentLink5URL: http://www.farnell.com/datasheets/2238341.pdf?src-supplier=Avnet; ComponentLink5Description: http://www.farnell.com/datasheets/2238341.pdf?src-supplier=Avnet; ComponentLink6URL: http://www.farnell.com/datasheets/2238341.pdf?src-supplier=Avnet+Europe; ComponentLink6Description: http://www.farnell.com/datasheets/2238341.pdf?src-supplier=Avnet+Europe; Supplier 1: Digi-Key; Digi_Key_Part_Number: 1N5819HW1-7-FDICT-ND; Link: https://www.digikey.com/en/products/detail/diodes-incorporated/1n5819hw1-7-f/5768523; ComponentLink7Description: DIODE SBR 40V 1A SOD123F; ComponentLink7URL: https://www.digikey.com/es/products/detail/diodes-incorporated/1N5819HW1-7-F/5768523?s=N4IgTCBcDaIIwDkCsAOOBOAEgdTgWgHY8AxAEQEkBhAFTwVJAF0BfIA
footprint DIODE DO-214AC
pins: 1, 2

## DIODE FM4004-W
designator D?, comment Supplier Part Number 1: 2516-FM4004W-WTR-ND  (hidden comment: 31-S1GB-13-FCT-ND)
Diodos 400 V 1A Montaje en superficie SMB; Manufacturer: ON Semiconductor / Fairchild; MF: ON Semiconductor; MP: 1N4007; Forward Voltage: 1.1V; Polarity: Standard; Peak Non-Repetitive Surge Current: 30A; Element Configuration: Single; Voltage Rating (DC): 1kV; Capacitance: 15pF; Peak Reverse Current: 5uA; Power Dissipation: 3W; Price: None; Package: DO-41 Good-Ark; Availability: Unavailable; SnapEDA_Link: https://www.snapeda.com/parts/1N4007/ON%20Semiconductor/view-part/?ref=snap; Value: *; Manufacturer Part Number: 1N4007; Mount: Through Hole; Number of Pins: 2; Weight: 0.245g; Contact Plating: Tin,Matte; Min Operating Temperature: -65°C; Max Operating Temperature: 175°C; Packaging: Tape and Reel; Current Rating: 1A; Output Current: 1A; Max Surge Current: 30A; Forward Current: 1A; Max Repetitive Reverse Voltage (Vrrm): 1kV; Max Forward Surge Current (Ifsm): 30A; Package Quantity: 1000; Reverse Voltage: 1kV; Average Rectified Current: 1A; Max Reverse Voltage (DC): 1kV; Diameter: 2.72mm; Length: 5.2mm; Height: 5.2mm; Width: 2.72mm; Radiation Hardening: No; REACH SVHC: No SVHC; Lead Free: Lead Free; ComponentLink1URL: http://www.farnell.com/datasheets/2288250.pdf?src-supplier=Newark; ComponentLink1Description: http://www.farnell.com/datasheets/2288250.pdf?src-supplier=Newark; ComponentLink2URL: http://www.onsemi.com/pub/Collateral/1N4001-D.PDF?src-supplier=Digi-Key; ComponentLink2Description: http://www.onsemi.com/pub/Collateral/1N4001-D.PDF?src-supplier=Digi-Key; ComponentLink3URL: http://www.fairchildsemi.com/datasheets/1N/1N4001.pdf?src-supplier=Digi-Key; ComponentLink3Description: http://www.fairchildsemi.com/datasheets/1N/1N4001.pdf?src-supplier=Digi-Key; Supplier 1: Digi-Key; ComponentLink4Description: DIODE GEN PURP 400V 1A SMB; ComponentLink4URL: https://www.digikey.com/es/products/detail/diodes-incorporated/S1GB-13-F/814409?s=N4IgTCBcDaIMwEYC0BlBBxAQkhckDEBhAFSQDkAREAXQF8g; Link: https://www.digikey.com/es/products/detail/diodes-incorporated/S1GB-13-F/814409?s=N4IgTCBcDaIMwEYC0BlBBxAQkhckDEBhAFSQDkAREAXQF8g; Digi-Key_Part_Number: 31-S1GB-13-FCT-ND
footprint DIODE DO-214AC
pins: 1, 2

## DIODE SCHOTTKY_TH
designator D?  Supplier Part Number 2: MUR120RLGOSCT-ND
Diodo Estándar Orificio pasante 200V 1A Axial; Manufacturer: Diodes; Manufacturer Part Number: 1N5819HW-7-F; Forward Voltage: 450mV; Max Power Dissipation: 450mW; Peak Reverse Current: 50uA; Element Configuration: Single; Max Repetitive Reverse Voltage (Vrrm): 40V; Max Forward Surge Current (Ifsm): 25A; Polarity: Standard; Capacitance: 110pF; Max Surge Current: 35A; Recovery Time: 35ns; Natural Thermal Resistance: 87°C/W; Supplier 1: Digi-Key; Stock 1: 378269; Pricing 1: 1=0.45, 10=0.333, 100=0.1884, 500=0.1248, 1000=0.09568 (USD); Case/Package: SOD-123-2; Number of Pins: 2; Weight: 0.000353oz; Contact Plating: Tin,Matte; Min Operating Temperature: -65°C; Max Operating Temperature: 125°C; Package Quantity: 3000; Forward Current: 1A; Packaging: Tape and Reel; Average Rectified Current: 1A; Peak Non-Repetitive Surge Current: 25A; Termination: SMD/SMT; Voltage Rating (DC): 40V; Current Rating: 1A; Output Current: 1A; Max Reverse Voltage (DC): 40V; Length: 2.85mm; Height: 1.25mm; Width: 1.7mm; Radiation Hardening: No; REACH SVHC: No SVHC; Lead Free: Lead Free; Supplier 2: Digi-Key; Stock 2: 1733; Pricing 2: 1=0.39, 10=0.29, 100=0.138, 500=0.1223, 1000=0.09518, 2500=0.08709 (USD); Reverse Recovery Time: 35ns; Reverse Voltage: 200V; Halogen Free: Halogen Free; ComponentLink1URL: http://www.onsemi.com/pub/Collateral/MUR120-D.PDF?src-supplier=Digi-Key; ComponentLink1Description: http://www.onsemi.com/pub/Collateral/MUR120-D.PDF?src-supplier=Digi-Key; ComponentLink2URL: http://www.jameco.com/Jameco/Products/ProdDS/1098011.pdf?src-supplier=Jameco; ComponentLink2Description: http://www.jameco.com/Jameco/Products/ProdDS/1098011.pdf?src-supplier=Jameco; ComponentLink3URL: http://docs-europe.electrocomponents.com/webdocs/13e4/0900766b813e4408.pdf?src-supplier=Allied+Electronics; ComponentLink3Description: http://docs-europe.electrocomponents.com/webdocs/13e4/0900766b813e4408.pdf?src-supplier=Allied+Electronics
footprint DIODE1N4007(Primary)
pins: 1, 2

## DIODE TVS
designator D?, comment Supplier Part Number 1: SMBJ12CAFSDKR-ND  (hidden comment: SMBJ12CAFSCT-ND)
19.9V Abrazadera 30.2 A Ipp TVS - Diodos Montaje en superficie DO-214AA (SMB); MF: Taiwan Semiconductor Corporation; MP: SMF18A RQG; Purchase-URL: https://pricing.snapeda.com/search/part/SMF18A RQG/?ref=eda; Price: None; Check_prices: https://www.snapeda.com/parts/SMF18A%20RQG/Taiwan+Semiconductor/view-part/?ref=eda; SnapEDA_Link: https://www.snapeda.com/parts/SMF18A%20RQG/Taiwan+Semiconductor/view-part/?ref=snap; Availability: In Stock; Value: *; Package: None; Supplier 1: Digi-Key
footprint SODFL3718X102N
pins: 1 C, 2 A

## Diode_DF2S6.2FSL3M_SOD923
designator D?
TVS DIODE 5VWM SOD923; MF: ON Semiconductor; MP: ESD9X5.0ST5G; Availability: Unavailable; Value: *; Package: SOD-923 ON Semiconductor; Price: None; SnapEDA_Link: https://www.snapeda.com/parts/ESD9X5.0ST5G/ON%20Semiconductor/view-part/237761/?ref=snap
footprint SODFL1006X43N
pins: A, C K

## Diode_SS23_DO-214AA
designator D?, comment SS23
Diode 30 V 2A Surface Mount DO-214AA (SMB); Value: DIODE SCHOTTKY 30V 2A DO214AA; Availability: Unavailable; Price: None; Package: None; MP: SS23; ComponentLink1Description: DIODE SCHOTTKY 30V 2A DO214AA; ComponentLink1URL: https://www.digikey.com/en/products/detail/onsemi/SS23/965475?s=N4IgTCBcDaIMpzAZgCIGkBKBaAcikAugL5A; Link: https://www.digikey.com/en/products/detail/onsemi/SS23/965475?s=N4IgTCBcDaIMpzAZgCIGkBKBaAcikAugL5A; Digi-Key_Part_Number: SS23CT-ND
footprint DIOM4336X265N
pins: A, C K

## DIODE_TVS_CDSOT23-SM712
designator D?  Supplier Part Number 1: CDSOT23-SM712DKR-ND
26V, 14V Clamp 17A (8/20Âµs) Ipp Tvs Diode Surface Mount SOT-23-3; Digi_Key_Part_Number: CDSOT23-SM712CT-ND; MP: CDSOT23-SM712; MF: Bourns; Check_prices: https://www.snapeda.com/parts/CDSOT23-SM712/Bourns+-+J.W.+Miller/view-part/?ref=eda; Value: *; Availability: In Stock; Price: None; Package: SOT-23 Bourns; SnapEDA_Link: https://www.snapeda.com/parts/CDSOT23-SM712/Bourns+-+J.W.+Miller/view-part/?ref=snap; Purchase-URL: https://pricing.snapeda.com/search/part/CDSOT23-SM712/?ref=eda; Supplier 1: Digi-Key; Link: https://www.digikey.com/es/products/detail/CDSOT23-SM712/CDSOT23-SM712DKR-ND/1630622?utm_campaign=buynow&utm_medium=aggregator&curr=usd&utm_source=octopart; ComponentLink1Description: TVS DIODE 7V/12V 14V/26V SOT23-3; ComponentLink1URL: https://www.digikey.com/es/products/detail/CDSOT23-SM712/CDSOT23-SM712DKR-ND/1630622?utm_campaign=buynow&utm_medium=aggregator&curr=usd&utm_source=octopart
footprint SOT23-3
pins: 1 P$1, 2 P$2, 3 P$3

## DM3AT-SF-PEJM5
designator J
10ï¼ˆ8 + 2ï¼‰ä½ç½®å¡è¿žæŽ¥å™¨å®‰å…¨æ•°å­—-microSDâ„¢è¡¨é¢å®‰è£…ï¼Œç›´è§’é‡‘; MF: Hirose; MP: DM3AT-SF-PEJM5; Price: None; SnapEDA_Link: https://www.snapeda.com/parts/DM3AT-SF-PEJM5/Hirose%20Electric%20Co%20Ltd/view-part/1223877/?ref=snap; Availability: Unavailable; Package: None; Value: *
footprint HRS_DM3AT-SF-PEJM5
pins: 1 DAT2 (io), 2 CD/DAT3 (io), 3 CMD (io), 4 VDD (power), 5 CLK (io), 6 VSS (power), 7 DAT0 (io), 8 DAT1 (io), P1 SHIELD, P2 SHIELD, P3 SHIELD, P4 SHIELD, SWA A (io), SWB B (io)

## DMG2305UX-13
designator Q?  Supplier Part Number 1: DMG2305UX-13DIDKR-ND
P-Channel 20V 4.2A _Ta_ 1.4W _Ta_ Surface Mount SOT-23; MP: DMG2305UX-13; MF: Diodes Inc.; Package: SOT-23-3 Diodes Inc.; Price: None; Availability: Unavailable; Value: *; SnapEDA_Link: https://www.snapeda.com/parts/DMG2305UX-13/Diodes%20Inc./view-part/100092/?ref=snap; Supplier 1: Digi-Key
footprint SOT91P240X110-3N
pins: 1 G, 2 S, 3 D

## DS1302Z+T&R
designator U?
Real Time Clock _RTC_ IC Clock/Calendar 31B 3-Wire Serial 8-SOIC _0.154, 3.90mm Width_; MF: Maxim Integrated; Value: DS1302Z+T&R; Package: SOIC-8 Maxim Integrated; Availability: Unavailable; MP: DS1302Z+T&R; SnapEDA_Link: https://www.snapeda.com/parts/DS1302Z/Maxim%20Integrated/view-part/2748183/?ref=snap; Price: None; ComponentLink1Description: DS1302Z+T&R; ComponentLink1URL: https://www.digikey.com/en/products/detail/analog-devices-inc-maxim-integrated/DS1302Z-T-R/1017846; Link: https://www.digikey.com/en/products/detail/analog-devices-inc-maxim-integrated/DS1302Z-T-R/1017846; Digi-Key_Part_Number: DS1302Z+CT-ND
footprint SOIC127P600X175-8N
pins: 1 VCC2 (power), 2 X1 (in), 3 X2 (out), 4 GND (power), 5 CE (in), 6 I/O (io), 7 SCLK (in), 8 VCC1 (power)

## DS1337S+T&R
designator U?, comment Part Number: DS1337Z+T&R  Supplier Part Number 1: DS1337S+T&RCT-ND
Relojes de tiempo real (RTC) IC Reloj/calendario - I²C, 2 conductores en serie 8-SOIC (ancho 0.154", 3.90mm; Manufacturer_Part_Number: DS1307Z+T&R; Manufacturer: Maxim Dallas; Vendor: Maxim Integrated Products; Built_By: EMA_UL_Team; Max Supply Voltage: 5.5V; Min Supply Voltage: 4.5V; Memory Size: 56B; Time Format: HH:MM:SS; Copyright: Copyright (C) 2018 Accelerated Designs. All rights reserved; RefDes: RefDes; Type: DEV; Value: Value; Manufacturer Part Number: DS1307Z+T&R; Mount: Surface Mount; Case/Package: SOIC; Number of Pins: 8; Min Operating Temperature: 0°C; Max Operating Temperature: 70°C; Packaging: Tape and Reel; Length: 5mm; Height: 1.5mm; Width: 4mm; Lead Free: Lead Free; Supplier 1: Digi-Key
footprint 21-0041B_8-M
pins: 1 X1, 2 X2, 3 VBAT (power), 4 GND (power), 5 SDA, 6 SCL, 7 SQW/OUT, 8 VCC (power)

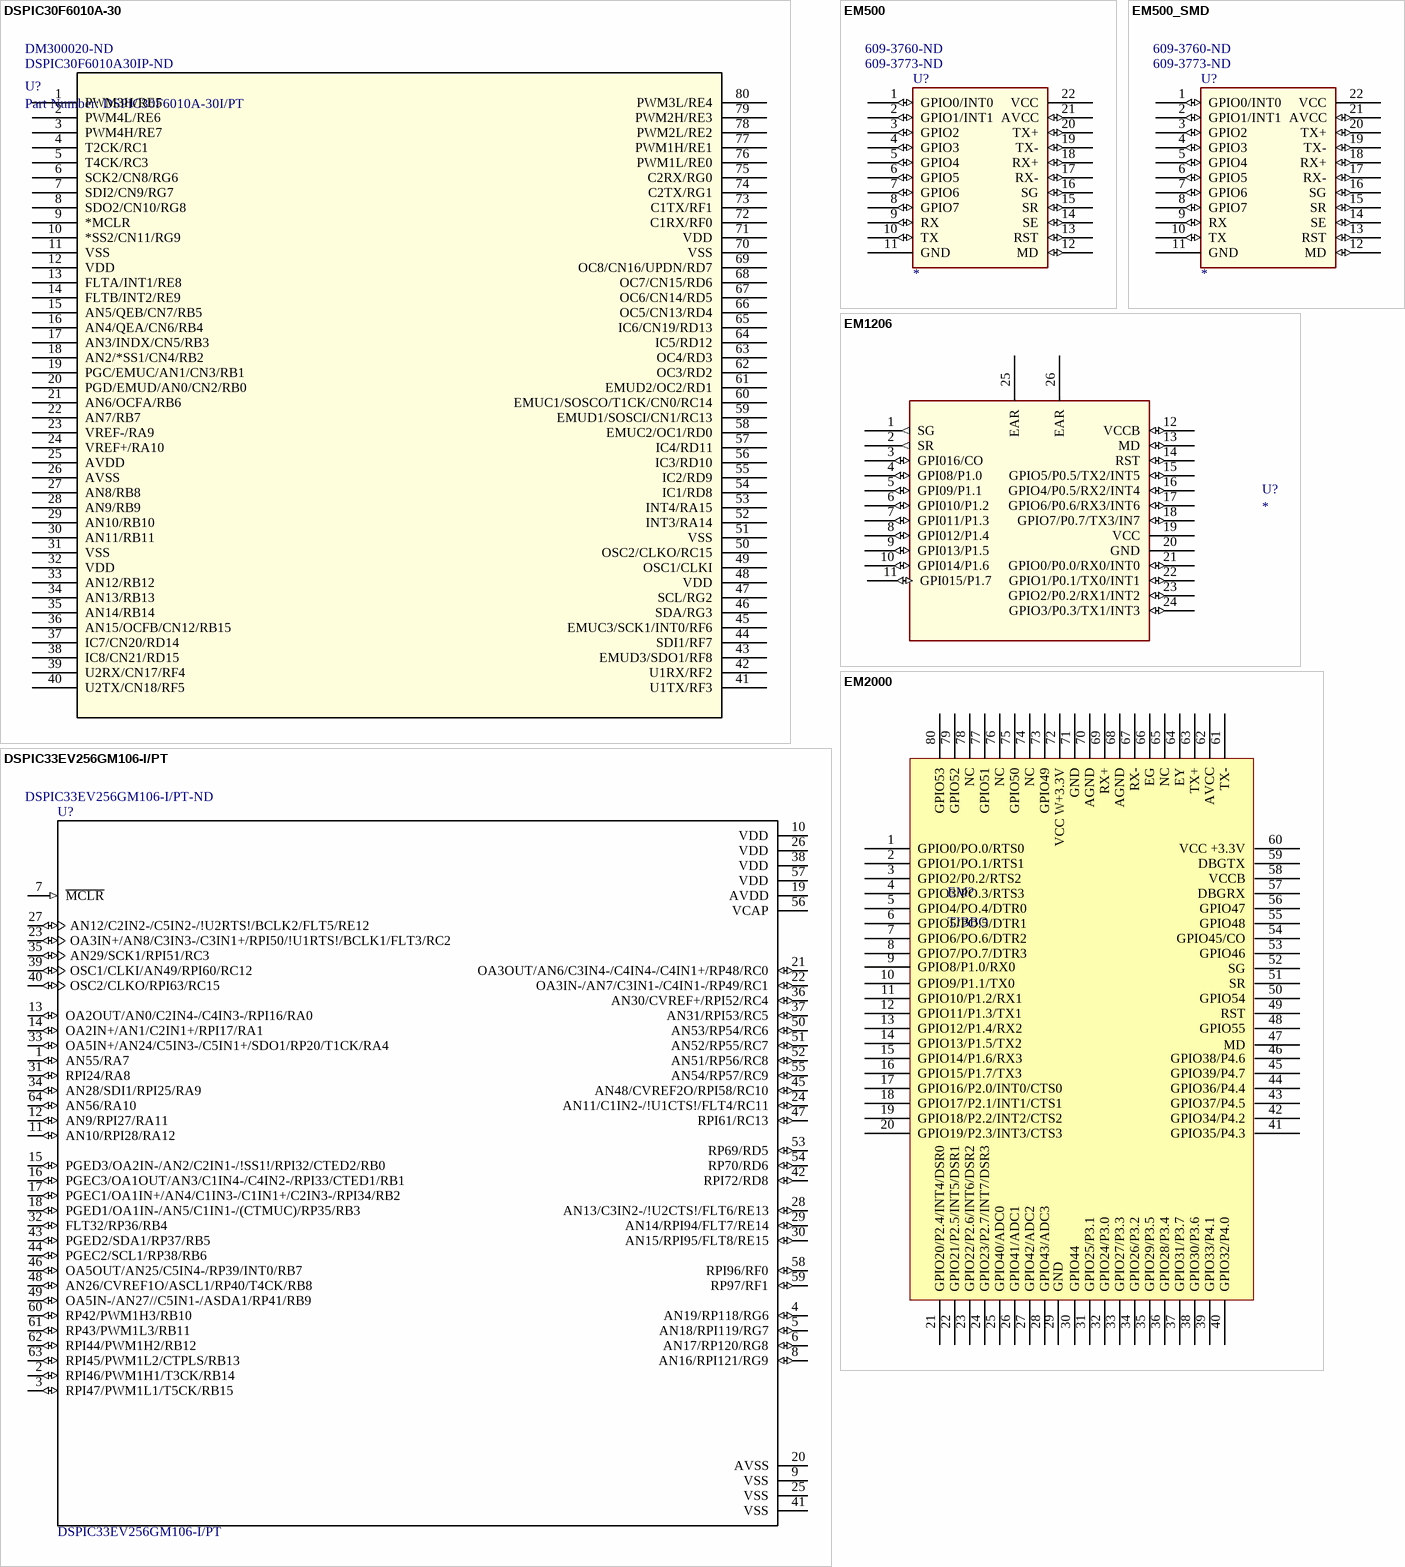
[diagram p2: symbols DSPIC30F6010A-30 to EM2000]

## DSPIC30F6010A-30
designator U?, comment Part Number: DSPIC30F6010A-30I/PT  Supplier Part Number 1: DSPIC30F6010A30IP-ND  Supplier Part Number 2: DM300020-ND
Microcontrolador IC dsPIC dsPIC™ 30F 16 bits 30 MIPS Memoria flash 144KB (48K x 24) 80-TQFP (12x12); Vendor: Microchip; Built_By: EMA_Jessica; Interface: I2C,SPI,CAN,UART,USART; Data Bus Width: 16b; Number of Bits: 16; RAM Size: 8KB; Number of I/Os: 68; Number of Timers/Counters: 5; Frequency: 30MHz; Max Supply Voltage: 5.5V; Min Supply Voltage: 4.5V; Number of I2C Channels: 1; Number of SPI Channels: 2; Number of PWM Channels: 8; Oscillator Type: Internal; Watchdog Timer: Yes; Nominal Supply Current: 84mA; Peripherals: PWM,I2C,Brown-out Detect/Reset,POR,WDT,LVD; Operating Supply Voltage: 9V; Manufacturer_Part_Number: DSPIC30F6010A-30I/PT; Copyright: Copyright (C) 2018 Accelerated Designs. All rights reserved; RefDes: RefDes; Type: DEV; Value: Value; Supplier 1: Digi-Key; Manufacturer: Microchip; Manufacturer Part Number: DSPIC30F6010A-30I/PT; Stock 1: 1454; Pricing 1: 1=10.19, 25=9.26 (USD); Mount: Surface Mount; Case/Package: TQFP; Number of Pins: 80; Min Operating Temperature: -40°C; Max Operating Temperature: 85°C; Package Quantity: 119; Core Architecture: dsPIC; Packaging: Tray; Number of ADC Channels: 16; Number of UART Channels: 2; Density: 144KB; Number of Programmable I/O: 68; Termination: SMD/SMT; Memory Type: FLASH; Number of A/D Converters: 1; Max Frequency: 30MHz; Address Bus Width: 16b; Memory Size: 144KB; Length: 0.393inch; Height: 0.041inch; Width: 0.394inch; Radiation Hardening: No; REACH SVHC: No SVHC; Lead Free: Lead Free; ComponentLink1URL: http://ww1.microchip.com/downloads/jp/DeviceDoc/jp025856.pdf?src-supplier=Avnet; ComponentLink1Description: http://ww1.microchip.com/downloads/jp/DeviceDoc/jp025856.pdf?src-supplier=Avnet; ComponentLink2URL: http://www.farnell.com/datasheets/1669383.pdf?src-supplier=Element14; ComponentLink2Description: http://www.farnell.com/datasheets/1669383.pdf?src-supplier=Element14; ComponentLink3URL: https://www.verical.com/server-webapp/html/getDatasheet?partID=426339&src-supplier=Verical; ComponentLink3Description: https://www.verical.com/server-webapp/html/getDatasheet?partID=426339&src-supplier=Verical; ComponentLink4URL: http://www.microchip.com/mymicrochip/filehandler.aspx?ddocname=en540967&src-supplier=Digi-Key; ComponentLink4Description: http://www.microchip.com/mymicrochip/filehandler.aspx?ddocname=en540967&src-supplier=Digi-Key; ComponentLink5URL: https://www.distrelec.biz/Web/Downloads/_t/ds/dsPIC30F60XX_eng_tds.pdf?mime=application%2Fpdf&src-supplier=Distrelec; ComponentLink5Description: https://www.distrelec.biz/Web/Downloads/_t/ds/dsPIC30F60XX_eng_tds.pdf?mime=application%2Fpdf&src-supplier=Distrelec; ComponentLink6URL: http://www.produktinfo.conrad.com/datenblaetter/650000-674999/651291-da-01-en-IC_DSC_DSPIC30F6010A_30I_PT_TQFP_80_MCP.pdf?src-supplier=Conrad; ComponentLink6Description: http://www.produktinfo.conrad.com/datenblaetter/650000-674999/651291-da-01-en-IC_DSC_DSPIC30F6010A_30I_PT_TQFP_80_MCP.pdf?src-supplier=Conrad; ComponentLink7URL: http://datasheet.iiic.cc/microchip_technology/DSPIC30F6010A-30I_PT.pdf?src-supplier=IIIC; ComponentLink7Description: http://datasheet.iiic.cc/microchip_technology/DSPIC30F6010A-30I_PT.pdf?src-supplier=IIIC; Supplier 2: Digi-Key; Stock 2: 0; Evaluation Kit: Yes; ComponentLink8URL: http://www.farnell.com/datasheets/64080.pdf?src-supplier=Element14; ComponentLink8Description: http://www.farnell.com/datasheets/64080.pdf?src-supplier=Element14; ComponentLink9URL: http://ww1.microchip.com/downloads/en/DeviceDoc/01033B%2041.pdf?src-supplier=Future+Electronics; ComponentLink9Description: http://ww1.microchip.com/downloads/en/DeviceDoc/01033B%2041.pdf?src-supplier=Future+Electronics; ComponentLink10URL: http://components.arrow.com/part/dataview/0323_00271934?src-supplier=Arrow+Europe; ComponentLink10Description: http://components.arrow.com/part/dataview/0323_00271934?src-supplier=Arrow+Europe; ComponentLink11URL: http://ww1.microchip.com/downloads/en/DeviceDoc/70098A.pdf?src-supplier=Digi-Key; ComponentLink11Description: http://ww1.microchip.com/downloads/en/DeviceDoc/70098A.pdf?src-supplier=Digi-Key
footprint TQFP80_12x12MC-M
pins: 1 PWM3H/RE5, 2 PWM4L/RE6, 3 PWM4H/RE7, 4 T2CK/RC1, 5 T4CK/RC3, 6 SCK2/CN8/RG6, 7 SDI2/CN9/RG7, 8 SDO2/CN10/RG8, 9 *MCLR, 10 *SS2/CN11/RG9, 11 VSS, 12 VDD, 13 FLTA/INT1/RE8, 14 FLTB/INT2/RE9, 15 AN5/QEB/CN7/RB5, 16 AN4/QEA/CN6/RB4, 17 AN3/INDX/CN5/RB3, 18 AN2/*SS1/CN4/RB2, 19 PGC/EMUC/AN1/CN3/RB1, 20 PGD/EMUD/AN0/CN2/RB0, 21 AN6/OCFA/RB6, 22 AN7/RB7, 23 VREF-/RA9, 24 VREF+/RA10, 25 AVDD, 26 AVSS, 27 AN8/RB8, 28 AN9/RB9, 29 AN10/RB10, 30 AN11/RB11, 31 VSS, 32 VDD, 33 AN12/RB12, 34 AN13/RB13, 35 AN14/RB14, 36 AN15/OCFB/CN12/RB15, 37 IC7/CN20/RD14, 38 IC8/CN21/RD15, 39 U2RX/CN17/RF4, 40 U2TX/CN18/RF5, 41 U1TX/RF3, 42 U1RX/RF2, 43 EMUD3/SDO1/RF8, 44 SDI1/RF7, 45 EMUC3/SCK1/INT0/RF6, 46 SDA/RG3, 47 SCL/RG2, 48 VDD, 49 OSC1/CLKI, 50 OSC2/CLKO/RC15, 51 VSS, 52 INT3/RA14, 53 INT4/RA15, 54 IC1/RD8, 55 IC2/RD9, 56 IC3/RD10, 57 IC4/RD11, 58 EMUC2/OC1/RD0, 59 EMUD1/SOSCI/CN1/RC13, 60 EMUC1/SOSCO/T1CK/CN0/RC14, 61 EMUD2/OC2/RD1, 62 OC3/RD2, 63 OC4/RD3, 64 IC5/RD12, 65 IC6/CN19/RD13, 66 OC5/CN13/RD4, 67 OC6/CN14/RD5, 68 OC7/CN15/RD6, 69 OC8/CN16/UPDN/RD7, 70 VSS, 71 VDD, 72 C1RX/RF0, 73 C1TX/RF1, 74 C2TX/RG1, 75 C2RX/RG0, 76 PWM1L/RE0, 77 PWM1H/RE1, 78 PWM2L/RE2, 79 PWM2H/RE3, 80 PWM3L/RE4